# Altium integrated library fp_project.IntLib: 19 symbols
Pins are listed as number, name and electrical type; pins without a type are passive.

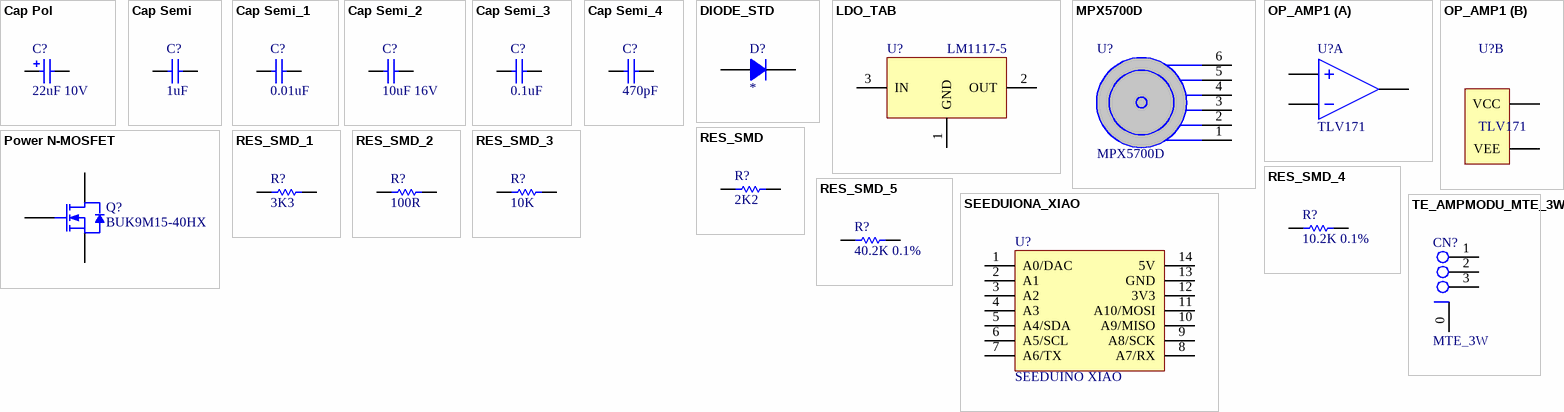
[diagram p0: symbols Cap Pol to TE_AMPMODU_MTE_3W]

## Cap Pol
designator C?, comment 22uF 10V
Pol. Capacitor; VALUE: 22uF 10V
footprint C0805 (Chip Capacitor; Body 2.0 x 1.2 mm (LxW typ))
footprint C1206 (Chip Capacitor; Body 3.2 x 1.6 mm (LxW typ))
footprint C2312 (Tantalum cap 6x3.2mm)
footprint C2917 (Tantalum cap 7.3x4.3mm)
footprint ALU_CAP_F (Alu Capacitor 8mm (Size F))
footprint ALU_CAP_D (Alu Capacitor 6.3mm (Size D))
footprint ALU_CAP_B (Alu Capacitor 4mm (Size B))
footprint ALU_CAP_A (Alu Capacitor 3mm (Size A))
footprint C1210 (Chip Capacitor; Body 3.2 x 2.8mm (LxW typ))
footprint CAP_CYL_25x25mm (Cylindrical Alum. Capacitor, 25mm L, 25mm D)
footprint CAP_EE_Series_16mm (Panasonic 16mm Diameter)
footprint ALU_CAP_G (Alu Capacitor 10mm (Size G))
footprint ALU_CAP9T (Alu Capacitor; Diam 16mm; Length 16.5mm (Size 9T))
pins: 1, 2

## Cap Semi
designator C?, comment 1uF
Small Capacitor; VALUE: 1uF
simulation model CAP (Semiconductor Capacitor)
signal-integrity model Cap Semi
footprint C0402
footprint CAP_10MM (Typ Film Cap 10mm Lead Dist.)
footprint C0805NP (Chip Capacitor; Body 2.0 x 1.2 mm (LxW typ))
footprint C1206NP (Chip Capacitor; Body 3.2 x 1.6 mm (LxW typ))
footprint C1411NP (Chip Capacitor; Body 3.2 x 1.6 mm (LxW typ))
footprint C2312NP (Chip Capacitor 6x3.2mm)
footprint C2220NP (Chip Capacitor 5.7x5mm)
footprint C1210NP (Chip Capacitor; Body 3.2 x 2.8mm (LxW typ))
footprint 0603s
footprint 0402s
footprint C4030NP (Chip Capacitor 10.5x7.9mm)
footprint C6560NP (Chip Capacitor 16.5x15mm)
footprint C3025NP (Chip Capacitor 7.5x6.3mm)
footprint 0805S (Chip Resistor; Body 2.0 x 1.2 mm (LxW typ); Small)
pins: 1, 2

## Cap Semi_1
designator C?, comment 0.01uF
Small Capacitor; VALUE: 0.01uF
simulation model CAP (Semiconductor Capacitor)
signal-integrity model Cap Semi
footprint C0402
footprint CAP_10MM (Typ Film Cap 10mm Lead Dist.)
footprint C0805NP (Chip Capacitor; Body 2.0 x 1.2 mm (LxW typ))
footprint C1206NP (Chip Capacitor; Body 3.2 x 1.6 mm (LxW typ))
footprint C1411NP (Chip Capacitor; Body 3.2 x 1.6 mm (LxW typ))
footprint C2312NP (Chip Capacitor 6x3.2mm)
footprint C2220NP (Chip Capacitor 5.7x5mm)
footprint C1210NP (Chip Capacitor; Body 3.2 x 2.8mm (LxW typ))
footprint 0603s
footprint 0402s
footprint C4030NP (Chip Capacitor 10.5x7.9mm)
footprint C6560NP (Chip Capacitor 16.5x15mm)
footprint C3025NP (Chip Capacitor 7.5x6.3mm)
footprint 0805S (Chip Resistor; Body 2.0 x 1.2 mm (LxW typ); Small)
pins: 1, 2

## Cap Semi_2
designator C?, comment 10uF 16V
Small Capacitor; VALUE: 10uF 16V
simulation model CAP (Semiconductor Capacitor)
signal-integrity model Cap Semi
footprint C0402
footprint CAP_10MM (Typ Film Cap 10mm Lead Dist.)
footprint C0805NP (Chip Capacitor; Body 2.0 x 1.2 mm (LxW typ))
footprint C1206NP (Chip Capacitor; Body 3.2 x 1.6 mm (LxW typ))
footprint C1411NP (Chip Capacitor; Body 3.2 x 1.6 mm (LxW typ))
footprint C2312NP (Chip Capacitor 6x3.2mm)
footprint C2220NP (Chip Capacitor 5.7x5mm)
footprint C1210NP (Chip Capacitor; Body 3.2 x 2.8mm (LxW typ))
footprint 0603s
footprint 0402s
footprint C4030NP (Chip Capacitor 10.5x7.9mm)
footprint C6560NP (Chip Capacitor 16.5x15mm)
footprint C3025NP (Chip Capacitor 7.5x6.3mm)
footprint 0805S (Chip Resistor; Body 2.0 x 1.2 mm (LxW typ); Small)
pins: 1, 2

## Cap Semi_3
designator C?, comment 0.1uF
Small Capacitor; VALUE: 0.1uF
simulation model CAP (Semiconductor Capacitor)
signal-integrity model Cap Semi
footprint C0402
footprint CAP_10MM (Typ Film Cap 10mm Lead Dist.)
footprint C0805NP (Chip Capacitor; Body 2.0 x 1.2 mm (LxW typ))
footprint C1206NP (Chip Capacitor; Body 3.2 x 1.6 mm (LxW typ))
footprint C1411NP (Chip Capacitor; Body 3.2 x 1.6 mm (LxW typ))
footprint C2312NP (Chip Capacitor 6x3.2mm)
footprint C2220NP (Chip Capacitor 5.7x5mm)
footprint C1210NP (Chip Capacitor; Body 3.2 x 2.8mm (LxW typ))
footprint 0603s
footprint 0402s
footprint C4030NP (Chip Capacitor 10.5x7.9mm)
footprint C6560NP (Chip Capacitor 16.5x15mm)
footprint C3025NP (Chip Capacitor 7.5x6.3mm)
footprint 0805S (Chip Resistor; Body 2.0 x 1.2 mm (LxW typ); Small)
pins: 1, 2

## Cap Semi_4
designator C?, comment 470pF
Small Capacitor; VALUE: 470pF
simulation model CAP (Semiconductor Capacitor)
signal-integrity model Cap Semi
footprint C0402
footprint CAP_10MM (Typ Film Cap 10mm Lead Dist.)
footprint C0805NP (Chip Capacitor; Body 2.0 x 1.2 mm (LxW typ))
footprint C1206NP (Chip Capacitor; Body 3.2 x 1.6 mm (LxW typ))
footprint C1411NP (Chip Capacitor; Body 3.2 x 1.6 mm (LxW typ))
footprint C2312NP (Chip Capacitor 6x3.2mm)
footprint C2220NP (Chip Capacitor 5.7x5mm)
footprint C1210NP (Chip Capacitor; Body 3.2 x 2.8mm (LxW typ))
footprint 0603s
footprint 0402s
footprint C4030NP (Chip Capacitor 10.5x7.9mm)
footprint C6560NP (Chip Capacitor 16.5x15mm)
footprint C3025NP (Chip Capacitor 7.5x6.3mm)
footprint 0805S (Chip Resistor; Body 2.0 x 1.2 mm (LxW typ); Small)
pins: 1, 2

## DIODE_STD
designator D?
Standard Diode; Value: *
simulation model DIODE (Diode)
signal-integrity model Diode
footprint 0603 DIODE
footprint SOT23-3 (SOT23, 3-Leads, Body 2.9x1.3mm, Pitch 0.95mm, Lead Span 2.3mm JEDEC TO-236AB); pin to pad A>1 K>3
footprint SOD123 (SOD123 2.65x1.6mm)
footprint SOD123H (SOD123 Low Profile 3.7x1.8mm)
footprint SOD323_SC76 (Small Outline Diode; 1.7x1.3mm Body)
footprint SOD123F (SOD123F/FL 2.6x1.8mm)
footprint PowerDI123 (PowerDI123 3x2mm Diodes)
footprint VMD2_DIODE (Ultra Small Mold Type Diode; 1x0.6mm Body)
footprint SOD110 (SOD110 2mm x 1.25mm)
footprint SOD80
pins: A, K

## LDO_TAB
designator U?, comment LM1117-5
Voltage Regulator (LDO); Output in Tab; PartNumber: LM1117-5
footprint JEDEC TO-252AA (DPAK) (D-PAK, 4-Leads, Body 6.1x6.5mm, Pitch 2.28mm, Lead Span 9.9mm, IPC Medium Density)
footprint SOT223_REG (SOT223, 3-Leads, Body 6.5x3.5mm, Pitch 2.3mm, Lead Span 7mm, IPC Low Density)
pins: 1 GND (power), 2 OUT (power), 3 IN (power)

## MPX5700D
designator U?
PartNumber: MPX5700D
footprint MPX5700D
pins: 1, 2, 3, 4, 5, 6

## OP_AMP1
designator U?, comment TLV171
Single Operational Amplifier; PartNumber: TLV171
footprint SOIC8_127 (SOIC, 8-Leads, Body 4.9x3.9mm, Pitch 1.27mm, IPC Medium Density); pin to pad IM>2 IP>3 O>6 VCC>7 VEE>4
footprint SOT23-5 (SOT23, 5-Leads, Body 2.9x1.6mm, Pitch 0.95mm, Lead Span 2.8mm); pin to pad IM>4 IP>3 O>1 VCC>5 VEE>2
part A pins: IM -IN1, IP +IN1, O OUT1 (oc)
part B pins: VCC (power), VEE (power)

## Power N-MOSFET
designator Q?, comment BUK9M15-40HX
N-Channel MOSFET; PartNumber: BUK9M15-40HX
footprint JEDEC TO-252AA (DPAK) (D-PAK, 4-Leads, Body 6.1x6.5mm, Pitch 2.28mm, Lead Span 9.9mm, IPC Medium Density)
footprint JEDEC TO-263AB (D2PAK) (D2-PAK, 4-Leads, Body 9.2x10.2mm, Pitch 2.54mm, Lead Span 15.4mm)
footprint POWERPAK_SO-8 (PowerPAK SO-8, Single); pin to pad 1>G 2>D 3>S
footprint SOIC8_127_MOSFET (SOIC, 8-Leads, Body 4.9x3.9mm, Pitch 1.27mm, IPC Medium Density); pin to pad 1>G 2>D 3>S
footprint TO-263-7 (D2PAK7) MOSFET (D2-PAK, 7-Leads, Body 9x10.2mm, Pitch 1.27mm, Lead Span 15.2mm, IPC Medium Density); pin to pad 1>G 2>D 3>S
footprint SOT1210 (LFPAK33; 0.65mm Pitch;); pin to pad 1>G 2>D 3>S
pins: 1 G, 2 D, 3 S

## RES_SMD
designator R?, comment 2K2
Resistor; Value: 2K2
footprint R0402 (Body 1.0 x 0.5 mm (LxW typ))
footprint R0805 (Chip Resistor; Body 2.0 x 1.2 mm (LxW typ))
footprint R0603 (Chip Resistor; Body 1.6 x 0.8 mm (LxW typ))
footprint R1206 (Chip Resistor; Body 3.2 x 1.6 mm (LxW typ))
footprint R2512 (Chip Resistor; Body 6.35 x 3 mm (LxW typ))
footprint CSS2725 (Current Sensing Chip Resistor)
footprint 0402s
footprint 0603s
footprint CSS2728 (Current Sensing Chip Resistor)
footprint 0805S (Chip Resistor; Body 2.0 x 1.2 mm (LxW typ); Small)
pins: 1, 2

## RES_SMD_1
designator R?, comment 3K3
Resistor; Value: 3K3
footprint R0402 (Body 1.0 x 0.5 mm (LxW typ))
footprint R0805 (Chip Resistor; Body 2.0 x 1.2 mm (LxW typ))
footprint R0603 (Chip Resistor; Body 1.6 x 0.8 mm (LxW typ))
footprint R1206 (Chip Resistor; Body 3.2 x 1.6 mm (LxW typ))
footprint R2512 (Chip Resistor; Body 6.35 x 3 mm (LxW typ))
footprint CSS2725 (Current Sensing Chip Resistor)
footprint 0402s
footprint 0603s
footprint CSS2728 (Current Sensing Chip Resistor)
footprint 0805S (Chip Resistor; Body 2.0 x 1.2 mm (LxW typ); Small)
pins: 1, 2

## RES_SMD_2
designator R?, comment 100R
Resistor; Value: 100R
footprint R0402 (Body 1.0 x 0.5 mm (LxW typ))
footprint R0805 (Chip Resistor; Body 2.0 x 1.2 mm (LxW typ))
footprint R0603 (Chip Resistor; Body 1.6 x 0.8 mm (LxW typ))
footprint R1206 (Chip Resistor; Body 3.2 x 1.6 mm (LxW typ))
footprint R2512 (Chip Resistor; Body 6.35 x 3 mm (LxW typ))
footprint CSS2725 (Current Sensing Chip Resistor)
footprint 0402s
footprint 0603s
footprint CSS2728 (Current Sensing Chip Resistor)
footprint 0805S (Chip Resistor; Body 2.0 x 1.2 mm (LxW typ); Small)
pins: 1, 2

## RES_SMD_3
designator R?, comment 10K
Resistor; Value: 10K
footprint R0402 (Body 1.0 x 0.5 mm (LxW typ))
footprint R0805 (Chip Resistor; Body 2.0 x 1.2 mm (LxW typ))
footprint R0603 (Chip Resistor; Body 1.6 x 0.8 mm (LxW typ))
footprint R1206 (Chip Resistor; Body 3.2 x 1.6 mm (LxW typ))
footprint R2512 (Chip Resistor; Body 6.35 x 3 mm (LxW typ))
footprint CSS2725 (Current Sensing Chip Resistor)
footprint 0402s
footprint 0603s
footprint CSS2728 (Current Sensing Chip Resistor)
footprint 0805S (Chip Resistor; Body 2.0 x 1.2 mm (LxW typ); Small)
pins: 1, 2

## RES_SMD_4
designator R?, comment 10.2K 0.1%
Resistor; Value: 10.2K 0.1%
footprint R0402 (Body 1.0 x 0.5 mm (LxW typ))
footprint R0805 (Chip Resistor; Body 2.0 x 1.2 mm (LxW typ))
footprint R0603 (Chip Resistor; Body 1.6 x 0.8 mm (LxW typ))
footprint R1206 (Chip Resistor; Body 3.2 x 1.6 mm (LxW typ))
footprint R2512 (Chip Resistor; Body 6.35 x 3 mm (LxW typ))
footprint CSS2725 (Current Sensing Chip Resistor)
footprint 0402s
footprint 0603s
footprint CSS2728 (Current Sensing Chip Resistor)
footprint 0805S (Chip Resistor; Body 2.0 x 1.2 mm (LxW typ); Small)
pins: 1, 2

## RES_SMD_5
designator R?, comment 40.2K 0.1%
Resistor; Value: 40.2K 0.1%
footprint R0402 (Body 1.0 x 0.5 mm (LxW typ))
footprint R0805 (Chip Resistor; Body 2.0 x 1.2 mm (LxW typ))
footprint R0603 (Chip Resistor; Body 1.6 x 0.8 mm (LxW typ))
footprint R1206 (Chip Resistor; Body 3.2 x 1.6 mm (LxW typ))
footprint R2512 (Chip Resistor; Body 6.35 x 3 mm (LxW typ))
footprint CSS2725 (Current Sensing Chip Resistor)
footprint 0402s
footprint 0603s
footprint CSS2728 (Current Sensing Chip Resistor)
footprint 0805S (Chip Resistor; Body 2.0 x 1.2 mm (LxW typ); Small)
pins: 1, 2

## SEEDUIONA_XIAO
designator U?, comment SEEDUINO XIAO
footprint SEEDUINO_XIAO
pins: 1 A0/DAC, 2 A1, 3 A2, 4 A3, 5 A4/SDA, 6 A5/SCL, 7 A6/TX, 8 A7/RX, 9 A8/SCK, 10 A9/MISO, 11 A10/MOSI, 12 3V3, 13 GND, 14 5V

## TE_AMPMODU_MTE_3W
designator CN?, comment MTE_3W
AMPMODU MTE 3W Connector
footprint AMPMODU_MTE_147278-2 (AMPMODU MTE; 3W; SMD; RA)
pins: 0, 1 0, 2 0, 3 0